# Altium footprint library ap-pam.PcbLib: 13 footprints
Each footprint in its own frame and in the unit in brackets; x right, y up, seen from the top. Pads: shape width x height; smd on the part's side, far side on the other; paste and mask are expansions set on the pad; w line width, h text height; cw(c..) or ccw(c..) is an arc to the next point about the centre after c.
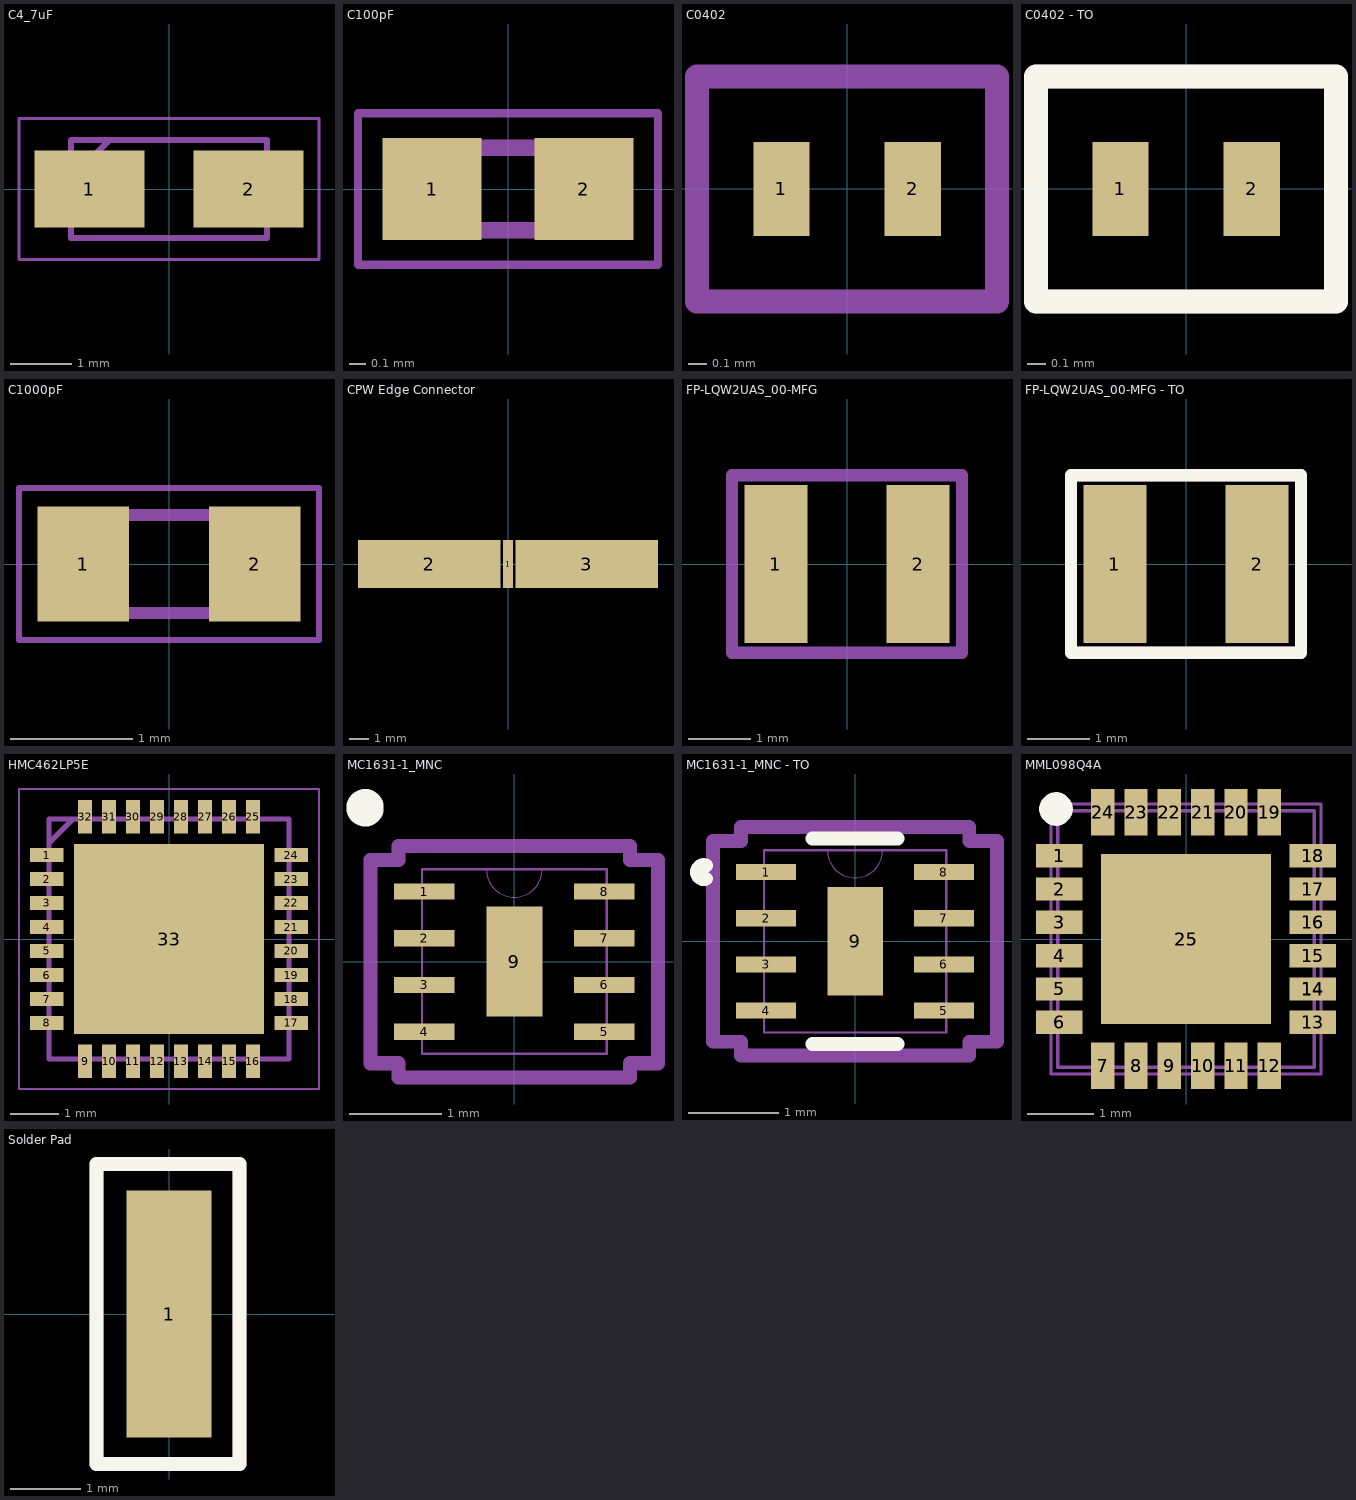
[diagram p0: the footprints below, top view; thin cyan lines are the x and y axes]

## C4_7uF [mm]
pads (2):
  rect 1.8x1.25 smd: 1(-1.3,0) 2(1.3,0)
Top Assembly:
  lines w0.05: -2.45,-1.15 -2.45,1.15 2.45,1.15 2.45,-1.15 -2.45,-1.15
  lines w0.1: -1.6,0.175 -0.975,0.8 ; -1.6,-0.8 -1.6,0.8 1.6,0.8 1.6,-0.8 -1.6,-0.8
  text ".Designator" at -3.499,-0.233 h0.7
3D body "C4_7uF.stp": height 1.84, standoff 0.01, extent -1.702,-0.948 1.702,0.95

## C100pF [mm]
pads (2):
  rect 0.6x0.62 smd: 1(-0.46,0) 2(0.46,0)
Top Assembly:
  lines w0.05: -0.91,-0.46 -0.91,0.46 0.91,0.46 0.91,-0.46 -0.91,-0.46
  lines w0.1: -0.5,-0.25 -0.5,0.25 0.5,0.25 0.5,-0.25 -0.5,-0.25
  text ".Designator" at -1.999,-0.133 h0.4
3D body "C100pF.stp": height 0.55, standoff 0, extent -0.5,-0.25 0.5,0.25

## C0402 [mm]
pads (2):
  rect 0.3x0.5 smd: 1(-0.35,0) 2(0.35,0)
Top Paste:
  rectangle: -0.5,-0.25 -0.2,0.25
  rectangle: 0.2,-0.25 0.5,0.25
Top Assembly:
  lines w0.127: -0.8,-0.6 0.8,-0.6 0.8,0.6 -0.8,0.6 -0.8,-0.6
  text ".Designator" at -2.499,-0.167 h0.5
3D body "CAP_0402_AVX.step": height 0.5, standoff 0, extent -0.51,-0.32 0.5,0.32

## C0402 - TO [mm]
pads (2):
  rect 0.3x0.5 smd: 1(-0.35,0) 2(0.35,0)
Top Overlay:
  lines w0.127: -0.8,-0.6 -0.8,0.6 0.8,0.6 0.8,-0.6 -0.8,-0.6
Top Paste:
  rectangle: 0.2,-0.25 0.5,0.25
  rectangle: -0.5,-0.25 -0.2,0.25
Top Assembly:
  lines w0.127: -0.8,-0.6 -0.8,0.6 0.8,0.6 0.8,-0.6 -0.8,-0.6
  text ".Designator" at -3.499,-0.233 h0.7
3D body "CAP_0402_AVX.step": height 0.5, standoff 0, extent -0.51,-0.32 0.5,0.32

## C1000pF [mm]
pads (2):
  rect 0.75x0.94 smd: 1(-0.7,0) 2(0.7,0)
Top Assembly:
  lines w0.05: -1.225,-0.62 1.225,-0.62 1.225,0.62 -1.225,0.62 -1.225,-0.62
  lines w0.1: -0.8,-0.4 0.8,-0.4 0.8,0.4 -0.8,0.4 -0.8,-0.4
  text ".Designator" at -2.499,-0.167 h0.5
3D body "C1000pF.stp": height 0.9, standoff 0, extent -0.8,-0.4 0.8,0.4

## CPW Edge Connector [mm]
pads (3):
  rect 0.538x2.54 smd paste-2539.97: 1(0,0)
  rect 7.5x2.54 smd paste-2539.97: 2(-4.133,0) 3(4.133,0)

## FP-LQW2UAS_00-MFG [mm]
pads (2):
  rect 1.015x2.54 smd paste+0 mask+0: 1(-1.142,0) 2(1.142,0)
Top Assembly:
  lines w0.2: -1.85,-1.425 1.85,-1.425 1.85,1.425 -1.85,1.425 -1.85,-1.425
  text ".Designator" at -2.499,-0.167 h0.5
3D body "Ind_Murata_LQW2UAS12NG00B_eec.STEP": height 2.03, standoff 0, extent -1.31,-1.225 1.31,1.225

## FP-LQW2UAS_00-MFG - TO [mm]
pads (2):
  rect 1.015x2.54 smd paste+0 mask+0: 1(-1.142,0) 2(1.142,0)
Top Overlay:
  lines w0.2: -1.85,-1.425 1.85,-1.425 1.85,1.425 -1.85,1.425 -1.85,-1.425
Top Assembly:
  lines w0.2: -1.85,-1.425 -1.85,1.425 1.85,1.425 1.85,-1.425 -1.85,-1.425
  text ".Designator" at 0,0.188 h1
3D body "Ind_Murata_LQW2UAS12NG00B_eec.STEP": height 2.03, standoff 0, extent -1.31,-1.225 1.31,1.225

## HMC462LP5E [mm]
pads (33):
  rect 0.7x0.3 smd: 1(-2.55,1.75) 2(-2.55,1.25) 3(-2.55,0.75) 4(-2.55,0.25) 5(-2.55,-0.25) 6(-2.55,-0.75) 7(-2.55,-1.25) 8(-2.55,-1.75) 17(2.55,-1.75) 18(2.55,-1.25) 19(2.55,-0.75) 20(2.55,-0.25) 21(2.55,0.25) 22(2.55,0.75) 23(2.55,1.25) 24(2.55,1.75)
  rect 0.3x0.7 smd: 9(-1.75,-2.55) 10(-1.25,-2.55) 11(-0.75,-2.55) 12(-0.25,-2.55) 13(0.25,-2.55) 14(0.75,-2.55) 15(1.25,-2.55) 16(1.75,-2.55) 25(1.75,2.55) 26(1.25,2.55) 27(0.75,2.55) 28(0.25,2.55) 29(-0.25,2.55) 30(-0.75,2.55) 31(-1.25,2.55) 32(-1.75,2.55)
  rect 3.95x3.95 smd: 33(0,0)
Top Assembly:
  lines w0.05: -3.125,-3.125 3.125,-3.125 3.125,3.125 -3.125,3.125 -3.125,-3.125
  lines w0.1: -2.5,2 -2,2.5 ; -2.5,-2.5 2.5,-2.5 2.5,2.5 -2.5,2.5 -2.5,-2.5
  text ".Designator" at -4.499,-0.3 h0.9
3D body "HMC462LP5E.stp": height 1, standoff 0, extent -2.55,-2.55 2.55,2.55

## MC1631-1_MNC [mil]
pads (9):
  rect 26x7 smd paste+0 mask+0: 1(-38.5,30) 2(-38.5,10) 3(-38.5,-10) 4(-38.5,-30) 5(38.5,-30) 6(38.5,-10) 7(38.5,10) 8(38.5,30)
  rect 24x47 smd paste+0 mask+0: 9(0,0)
Top Overlay:
  circle w10: c-63.89,65.85 r3
  lines w6: -62.99,62.99 cw(c-63.89,65.85) -62.99,68.72
Top Assembly:
  lines w0: -12,39.5 ccw(c0,39.5) 12,39.5
  lines w1: -39.5,-39.5 39.5,-39.5 39.5,39.5 -39.5,39.5 -39.5,-39.5
  lines w6: -61.5,-43.5 -61.5,43.5 -49.5,43.5 -49.5,49.5 49.5,49.5 49.5,43.5 61.5,43.5 61.5,-43.5 49.5,-43.5 49.5,-49.5 -49.5,-49.5 -49.5,-43.5 -61.5,-43.5
  text ".Designator" at -98.39,-6.56 h19.68
3D body "MC1631-1_MNC.step": height 41.1, standoff 0, extent -39.49,-39.49 39.49,39.49

## MC1631-1_MNC - TO [mil]
pads (9):
  rect 26x7 smd paste+0 mask+0: 1(-38.5,30) 2(-38.5,10) 3(-38.5,-10) 4(-38.5,-30) 5(38.5,-30) 6(38.5,-10) 7(38.5,10) 8(38.5,30)
  rect 24x47 smd paste+0 mask+0: 9(0,0)
Top Overlay:
  lines w6: -64.6,27.14 cw(c-65.5,30) -64.6,32.86 ; -18.39,-44.5 18.39,-44.5 ; -18.39,44.5 18.39,44.5
Top Assembly:
  lines w0: -12,39.5 ccw(c0,39.5) 12,39.5
  lines w1: -39.5,-39.5 -39.5,39.5 39.5,39.5 39.5,-39.5 -39.5,-39.5
  lines w6: -61.5,-43.5 -49.5,-43.5 -49.5,-49.5 49.5,-49.5 49.5,-43.5 61.5,-43.5 61.5,43.5 49.5,43.5 49.5,49.5 -49.5,49.5 -49.5,43.5 -61.5,43.5 -61.5,-43.5
  text ".Designator" at -137.75,-9.18 h27.56
3D body "MC1631-1_MNC.step": height 41.1, standoff 0, extent -39.49,-39.49 39.49,39.49

## MML098Q4A [mm]
pads (50):
  rect 0.7x0.35 smd: 1(-1.9,1.25) 2(-1.9,0.75) 3(-1.9,0.25) 4(-1.9,-0.25) 5(-1.9,-0.75) 6(-1.9,-1.25) 13(1.9,-1.25) 14(1.9,-0.75) 15(1.9,-0.25) 16(1.9,0.25) 17(1.9,0.75) 18(1.9,1.25)
  rect 0.7x0.35 on Top Paste: 1(-1.9,1.25) 2(-1.9,0.75) 3(-1.9,0.25) 4(-1.9,-0.25) 5(-1.9,-0.75) 6(-1.9,-1.25) 13(1.9,-1.25) 14(1.9,-0.75) 15(1.9,-0.25) 16(1.9,0.25) 17(1.9,0.75) 18(1.9,1.25)
  rect 0.35x0.7 smd: 7(-1.25,-1.9) 8(-0.75,-1.9) 9(-0.25,-1.9) 10(0.25,-1.9) 11(0.75,-1.9) 12(1.25,-1.9) 19(1.25,1.9) 20(0.75,1.9) 21(0.25,1.9) 22(-0.25,1.9) 23(-0.75,1.9) 24(-1.25,1.9)
  rect 0.35x0.7 on Top Paste: 7(-1.25,-1.9) 8(-0.75,-1.9) 9(-0.25,-1.9) 10(0.25,-1.9) 11(0.75,-1.9) 12(1.25,-1.9) 19(1.25,1.9) 20(0.75,1.9) 21(0.25,1.9) 22(-0.25,1.9) 23(-0.75,1.9) 24(-1.25,1.9)
  rect 2.55x2.55 smd: 25(0,0)
  rect 2.5x2.5 on Top Paste: 25(0,0)
Top Overlay:
  circle w0.254: c-1.95,1.95 r0.125
Top Assembly:
  lines w0.05: -2.025,-2.025 2.025,-2.025 2.025,2.025 -2.025,2.025 -2.025,-2.025
  lines w0.055: -1.925,-1.925 1.925,-1.925 1.925,1.925 -1.925,1.925 -1.925,-1.925
  text ".Designator" at -4,-0.283 h0.8
3D body "MML098Q4A.stp": height 1.05, standoff 0, extent -2.05,-2.05 2.05,2.05

## Solder Pad [mm]
pads (1):
  rect 1.2x3.5 smd paste-2539.97: 1(0,0)
Top Overlay:
  lines w0.2: -1.025,-2.125 -1.025,2.125 1,2.125 1,-2.125 -1.025,-2.125
Top Assembly:
  lines w0.2: -1.025,-2.125 -1.025,2.125 1,2.125 1,-2.125 -1.025,-2.125
  text ".Designator" at 0.233,-3.499 h0.7